# Altium schematic symbol library Reed Switch.Schlib: 1 symbol
Pins are listed as number, name and electrical type; pins without a type are passive.

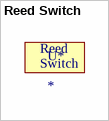
[diagram p0: symbol Reed Switch]

## Reed Switch
designator U*  (mechanical)
text: Reed; Switch